# Altium integrated library Crystals.IntLib: 4 symbols
Pins are listed as number, name and electrical type; pins without a type are passive.

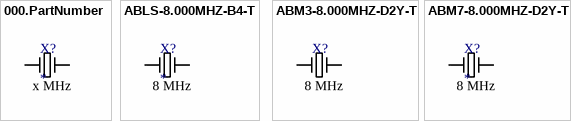
[diagram p0: symbols 000.PartNumber to ABM7-8.000MHZ-D2Y-T]

## 000.PartNumber
designator X?  Frequency: x MHz
Digikey Description; Manufacturer: *; Series: *; Package: *; Type: *; Frequency Stability: *; Frequency Tolerance: *; Load Capacitance: *; Operating Mode: *; Operating Temperature: *; Ratings: *; Mounting Type: *; Package / Case: *; Size / Dimension: *; Height - Seated (Max): *; ESR (Equivalent Series Resistance): *; Ozdisan Link: *; Digikey Link: *
pins: 1, 2

## ABLS-8.000MHZ-B4-T
designator X?  Frequency: 8 MHz
CRYSTAL 8.0000MHZ 18PF SMD; Manufacturer: Abracon LLC; Frequency Stability: ±50ppm; Frequency Tolerance: ±30ppm; Operating Mode: Fundamental; ESR (Equivalent Series Resistance): 80 Ohms; Series: ABLS; Package: Tape & Reel (TR); Type: MHz Crystal; Load Capacitance: 18 pF; Operating Temperature: -20°C ~ 70°C; Ratings: -; Mounting Type: Surface Mount; Package / Case: HC-49/US; Size / Dimension: 0.449" L x 0.185" W (11.40mm x 4.70mm); Height - Seated (Max): 0.165" (4.20mm); Ozdisan Link: https://ozdisan.com/pasif-komponentler/kristaller-osilatorler-ve-rezanatorler/kristaller/ABLS-8-000MHZ-B4-T; Digikey Link: https://www.digikey.com/en/products/detail/abracon-llc/ABLS-8-000MHZ-B4-T/2184155?s=N4IgTCBcDaIIICEAyBlAtADgHQAY8FkAJALTQQBY0AVEAXQF8g
footprint ABRACON_HC-49/US
pins: 1, 2

## ABM3-8.000MHZ-D2Y-T
designator X?  Frequency: 8 MHz  (hidden comment: *)
CRYSTAL 8.0000MHZ 18PF SMD; Manufacturer: Abracon LLC; Frequency Stability: ±30ppm; Frequency Tolerance: ±20ppm; Operating Mode: Fundamental; ESR (Equivalent Series Resistance): 140 Ohms; Series: ABM3; Package: Tape & Reel (TR); Type: MHz Crystal; Load Capacitance: 18 pF; Operating Temperature: -40°C ~ 85°C; Ratings: -; Mounting Type: Surface Mount; Package / Case: 2-SMD, No Lead; Size / Dimension: 0.197"" L x 0.126"" W (5.00mm x 3.20mm); Height - Seated (Max): 0.051"" (1.30mm); Ozdisan Link: https://ozdisan.com/pasif-komponentler/kristaller-osilatorler-ve-rezanatorler/kristaller/ABM3-8-000MHZ-D2Y-T; Digikey Link: https://www.digikey.com/en/products/detail/abracon-llc/ABM3-8-000MHZ-D2Y-T/2344570
footprint ABRACON_ABM3
pins: 1, 2

## ABM7-8.000MHZ-D2Y-T
designator X?  Frequency: 8 MHz
CRYSTAL 8.0000MHZ 18PF SMD; Manufacturer: Abracon LLC; Frequency Stability: ±30ppm; Frequency Tolerance: ±20ppm; Operating Mode: Fundamental; ESR (Equivalent Series Resistance): 100 Ohms; Series: ABM7; Package: Tape & Reel (TR); Type: MHz Crystal; Load Capacitance: 18 pF; Operating Temperature: -40°C ~ 85°C; Ratings: -; Mounting Type: Surface Mount; Package / Case: 2-SMD, No Lead; Size / Dimension: 0.236" L x 0.138" W (6.00mm x 3.50mm); Height - Seated (Max): 0.055" (1.40mm); Ozdisan Link: https://ozdisan.com/pasif-komponentler/kristaller-osilatorler-ve-rezanatorler/kristaller/ABM7-8-000MHZ-D2Y-T; Digikey Link: https://www.digikey.com/en/products/detail/abracon-llc/ABM7-8-000MHZ-D2Y-T/2001198?s=N4IgTCBcDaIIICECyB2AtADgHQAY9IAkAtNAETAE00AVEAXQF8g
footprint ABRACON_ABM7
pins: 1, 2